# Altium schematic symbol library Connectors_Interface.SchLib: 18 symbols
Pins are listed as number, name and electrical type; pins without a type are passive.

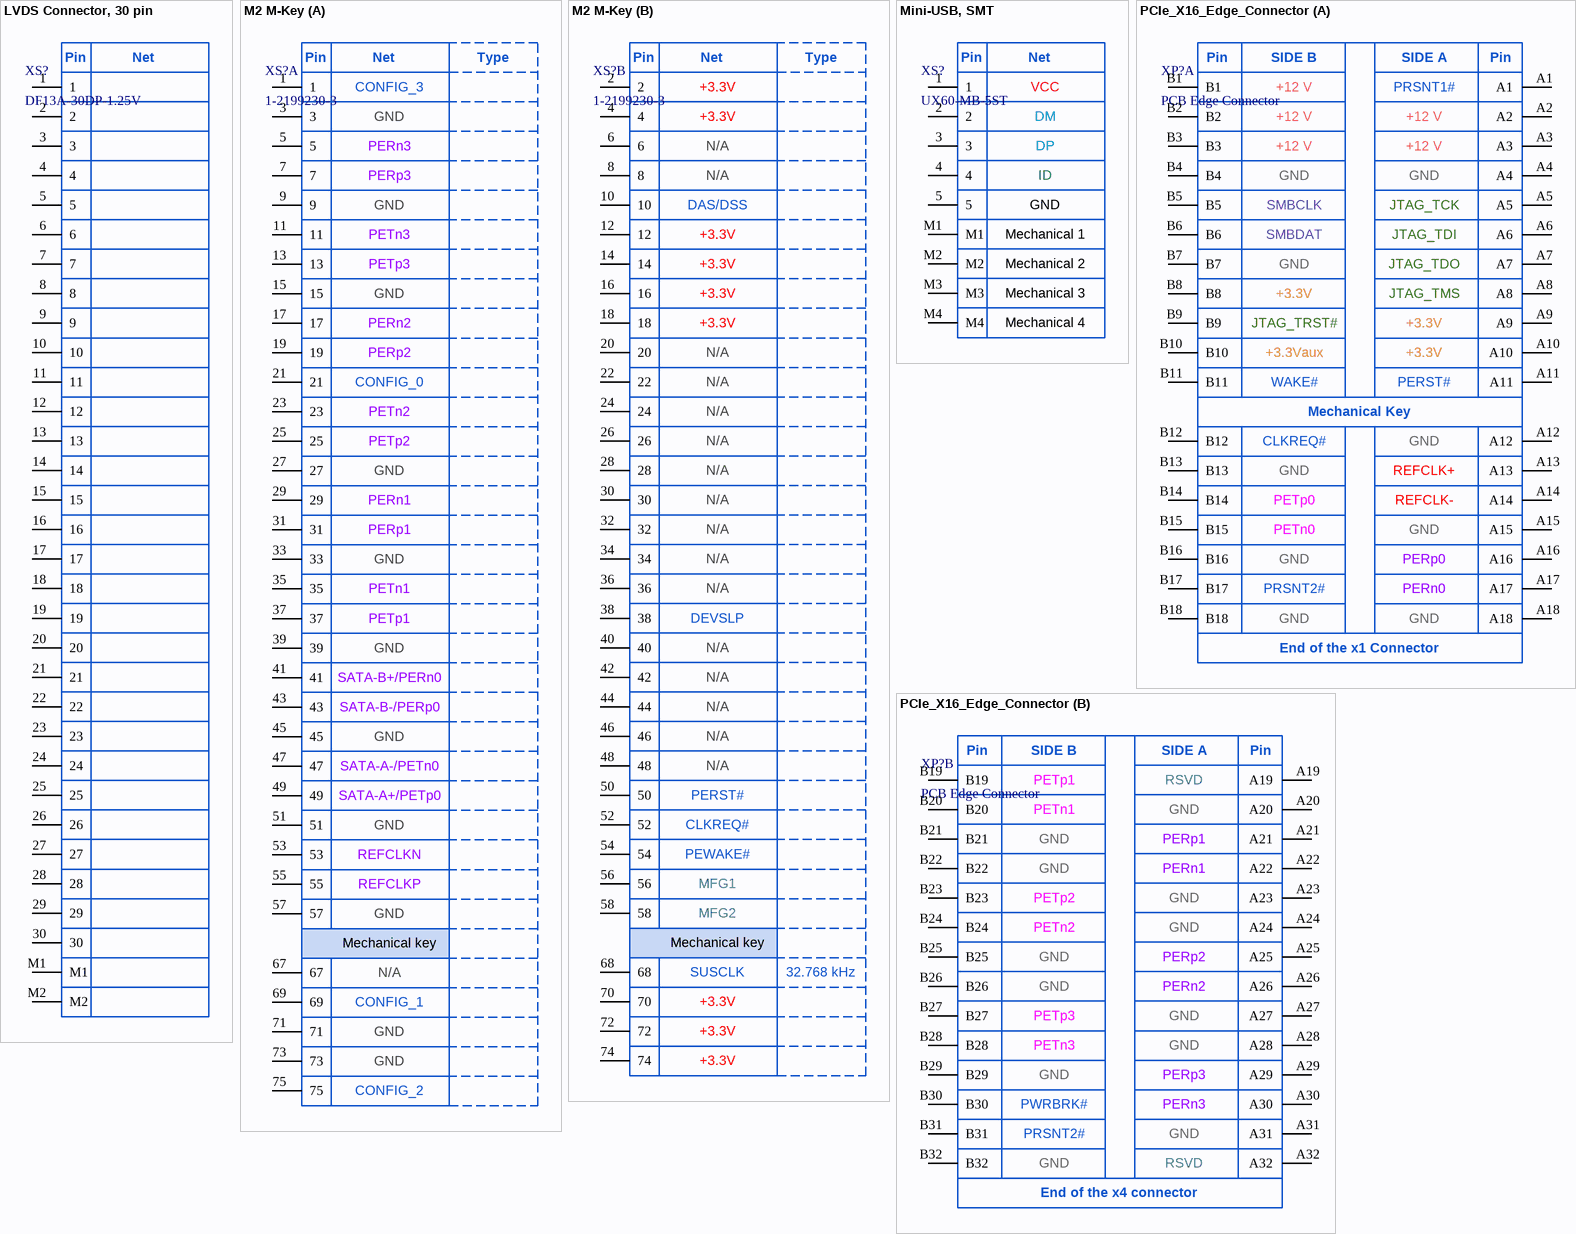
[diagram p0: symbols LVDS Connector, 30 pin to PCIe_X16_Edge_Connector]

## LVDS Connector, 30 pin
designator XS?, comment DF13A-30DP-1.25V
1.25mm Pitch, Double Row Straight Pin Header (SMT); Manufacturer: Hirose Electric Co Ltd.; ItemType: Connector; ItemSubType: LVDS; PartNumber: DF13A-30DP-1.25V; Mounting: SMD
footprint DF13A-30DP-1.25V (Double Row Straight Pin Header (SMT))
pins: 1, 2, 3, 4, 5, 6, 7, 8, 9, 10, 11, 12, 13, 14, 15, 16, 17, 18, 19, 20, 21, 22, 23, 24, 25, 26, 27, 28, 29, 30, M1, M2
text: Pin; Net

## M2 M-Key
designator XS?, comment 1-2199230-3
M.2 Connector M-Key; Manufacturer: TE Connectivity; ItemSubType: M2 M-Key; PartNumber: 1-2199230-3; ItemType: Connector; Mounting: SMD
footprint 1-2199230-3(2280) (TE Conn M.2 M-Key)
part A pins: 1, 3, 5, 7, 9, 11, 13, 15, 17, 19, 21, 23, 25, 27, 29, 31, 33, 35, 37, 39, 41, 43, 45, 47, 49, 51, 53, 55, 57, 67, 69, 71, 73, 75
part B pins: 2, 4, 6, 8, 10, 12, 14, 16, 18, 20, 22, 24, 26, 28, 30, 32, 34, 36, 38, 40, 42, 44, 46, 48, 50, 52, 54, 56, 58, 68, 70, 72, 74
part A text: Pin; Net; Type; CONFIG_3; GND; PERn3; PERp3; PETn3; PETp3; PERn2; PERp2; CONFIG_0; PETn2; PETp2; PERn1; PERp1; PETn1; PETp1; SATA-B+/PERn0; SATA-B-/PERp0; SATA-A-/PETn0; SATA-A+/PETp0; REFCLKN; REFCLKP; Mechanical key; N/A; CONFIG_1; CONFIG_2
part B text: Pin; Net; Type; +3.3V; N/A; DAS/DSS; DEVSLP; PERST#; CLKREQ#; PEWAKE#; MFG1; MFG2; Mechanical key; SUSCLK; 32.768 kHz

## Mini-USB, SMT
designator XS?, comment UX60-MB-5ST
Mini USB Connector Receptacle (type B); Manufacturer: Hirose Electric Co Ltd.; PartNumber: UX60-MB-5ST; ItemType: Connector; ItemSubType: Mini USB; Mounting: SMD
footprint UX60-MB-5ST (MiniUSB Connector)
pins: 1, 2, 3, 4, 5, M1, M2, M3, M4
text: Pin; Net; VCC; DM; DP; ID; GND; Mechanical 1; Mechanical 2; Mechanical 3; Mechanical 4

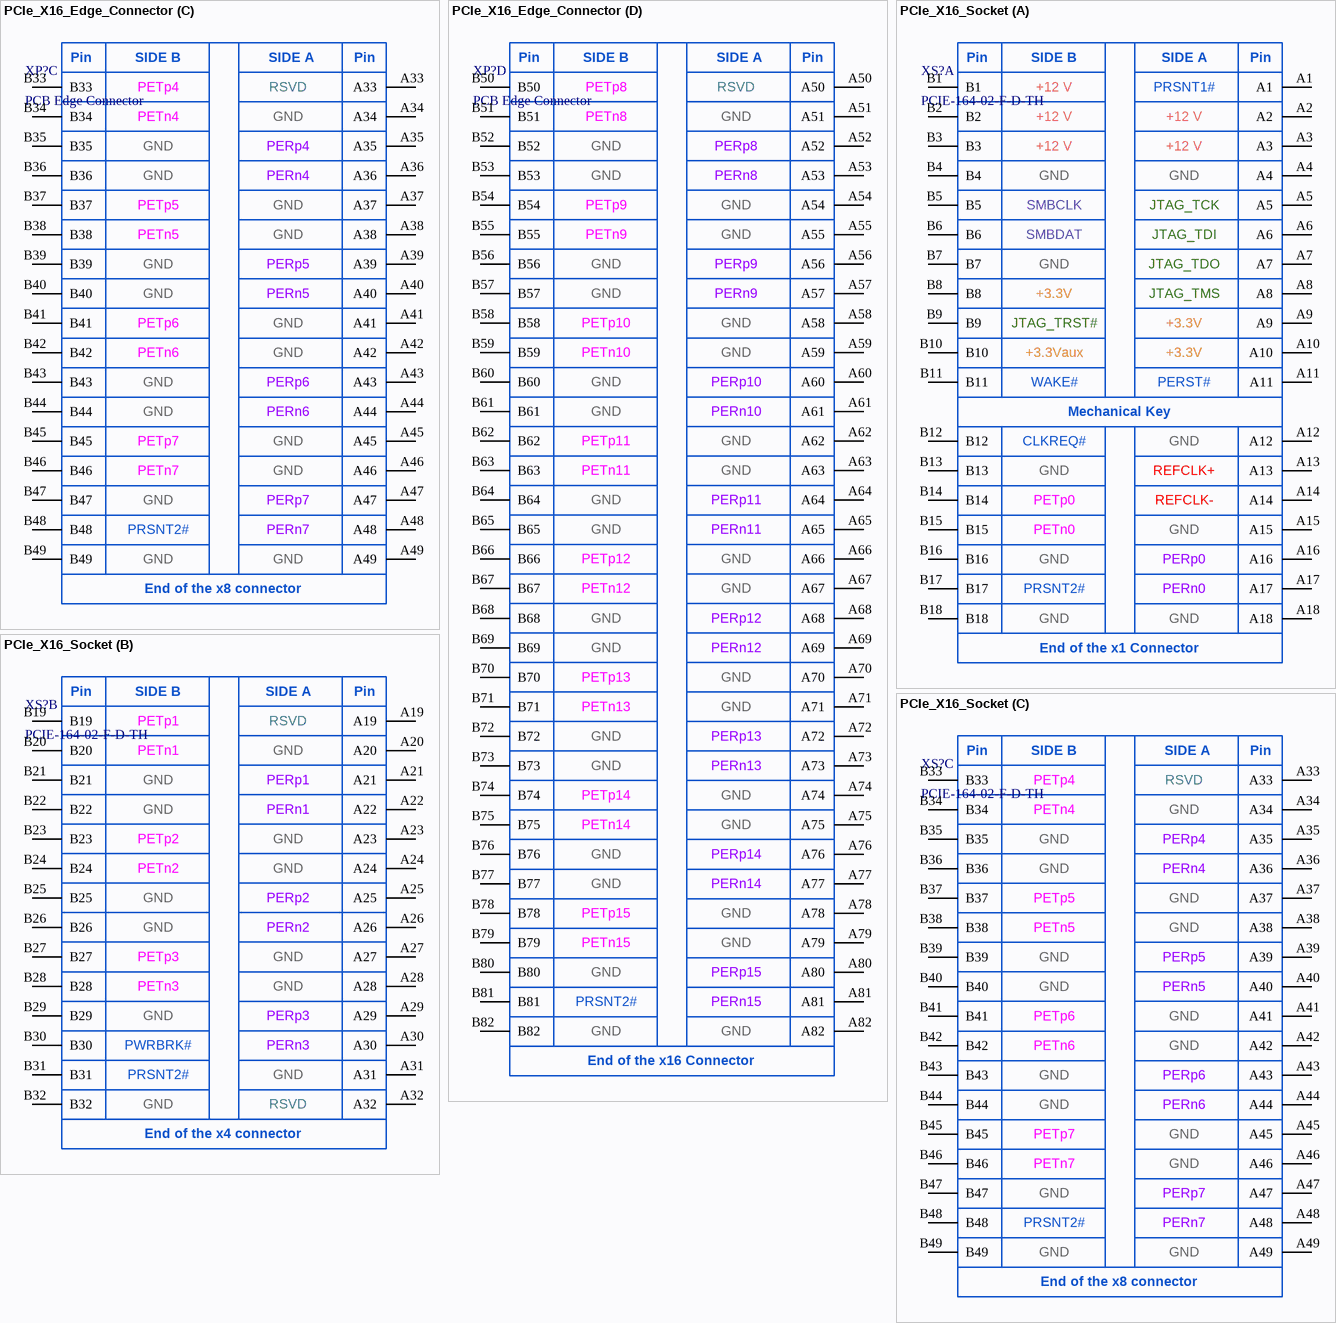
[diagram p1: symbols PCIe_X16_Edge_Connector to PCIe_X16_Socket]

## PCIe_X16_Edge_Connector
designator XP?, comment PCB Edge Connector  (no BOM)
PCI Express x16 Edge Card Socket; Manufacturer: Semtec; ItemSubType: PCE Express; Value: PCB Edge Connector; ItemType: Connector; Mounting: NONE
footprint PCIE_X16_EDGE_CONNECTOR (PCI Express x16 PCB Edge Connector)
part A pins: A1, A2, A3, A4, A5, A6, A7, A8, A9, A10, A11, A12, A13, A14, A15, A16, A17, A18, B1, B2, B3, B4, B5, B6, B7, B8, B9, B10, B11, B12, B13, B14, B15, B16, B17, B18
part B pins: A19, A20, A21, A22, A23, A24, A25, A26, A27, A28, A29, A30, A31, A32, B19, B20, B21, B22, B23, B24, B25, B26, B27, B28, B29, B30, B31, B32
part C pins: A33, A34, A35, A36, A37, A38, A39, A40, A41, A42, A43, A44, A45, A46, A47, A48, A49, B33, B34, B35, B36, B37, B38, B39, B40, B41, B42, B43, B44, B45, B46, B47, B48, B49
part D pins: A50, A51, A52, A53, A54, A55, A56, A57, A58, A59, A60, A61, A62, A63, A64, A65, A66, A67, A68, A69, A70, A71, A72, A73, A74, A75, A76, A77, A78, A79, A80, A81, A82, B50, B51, B52, B53, B54, B55, B56, B57, B58, B59, B60, B61, B62, B63, B64, B65, B66, B67, B68, B69, B70, B71, B72, B73, B74, B75, B76, B77, B78, B79, B80, B81, B82
part A text: Pin; SIDE B; SIDE A; +12 V; PRSNT1#; GND; SMBCLK; JTAG_TCK; SMBDAT; JTAG_TDI; JTAG_TDO; +3.3V; JTAG_TMS; JTAG_TRST#; +3.3Vaux; WAKE#; PERST#; Mechanical Key; CLKREQ#; REFCLK+; PETp0; REFCLK-; PETn0; PERp0; PRSNT2#; PERn0; End of the x1 Connector
part B text: Pin; SIDE B; SIDE A; PETp1; RSVD; PETn1; GND; PERp1; PERn1; PETp2; PETn2; PERp2; PERn2; PETp3; PETn3; PERp3; PWRBRK#; PERn3; PRSNT2#; End of the x4 connector
part C text: Pin; SIDE B; SIDE A; PETp4; RSVD; PETn4; GND; PERp4; PERn4; PETp5; PETn5; PERp5; PERn5; PETp6; PETn6; PERp6; PERn6; PETp7; PETn7; PERp7; PRSNT2#; PERn7; End of the x8 connector
part D text: Pin; SIDE B; SIDE A; PETp8; RSVD; PETn8; GND; PERp8; PERn8; PETp9; PETn9; PERp9; PERn9; PETp10; PETn10; PERp10; PERn10; PETp11; PETn11; PERp11; PERn11; PETp12; PETn12; PERp12; PERn12; PETp13; PETn13; PERp13; PERn13; PETp14; PETn14; PERp14; PERn14; PETp15; PETn15; PERp15; PRSNT2#; PERn15; End of the x16 Connector

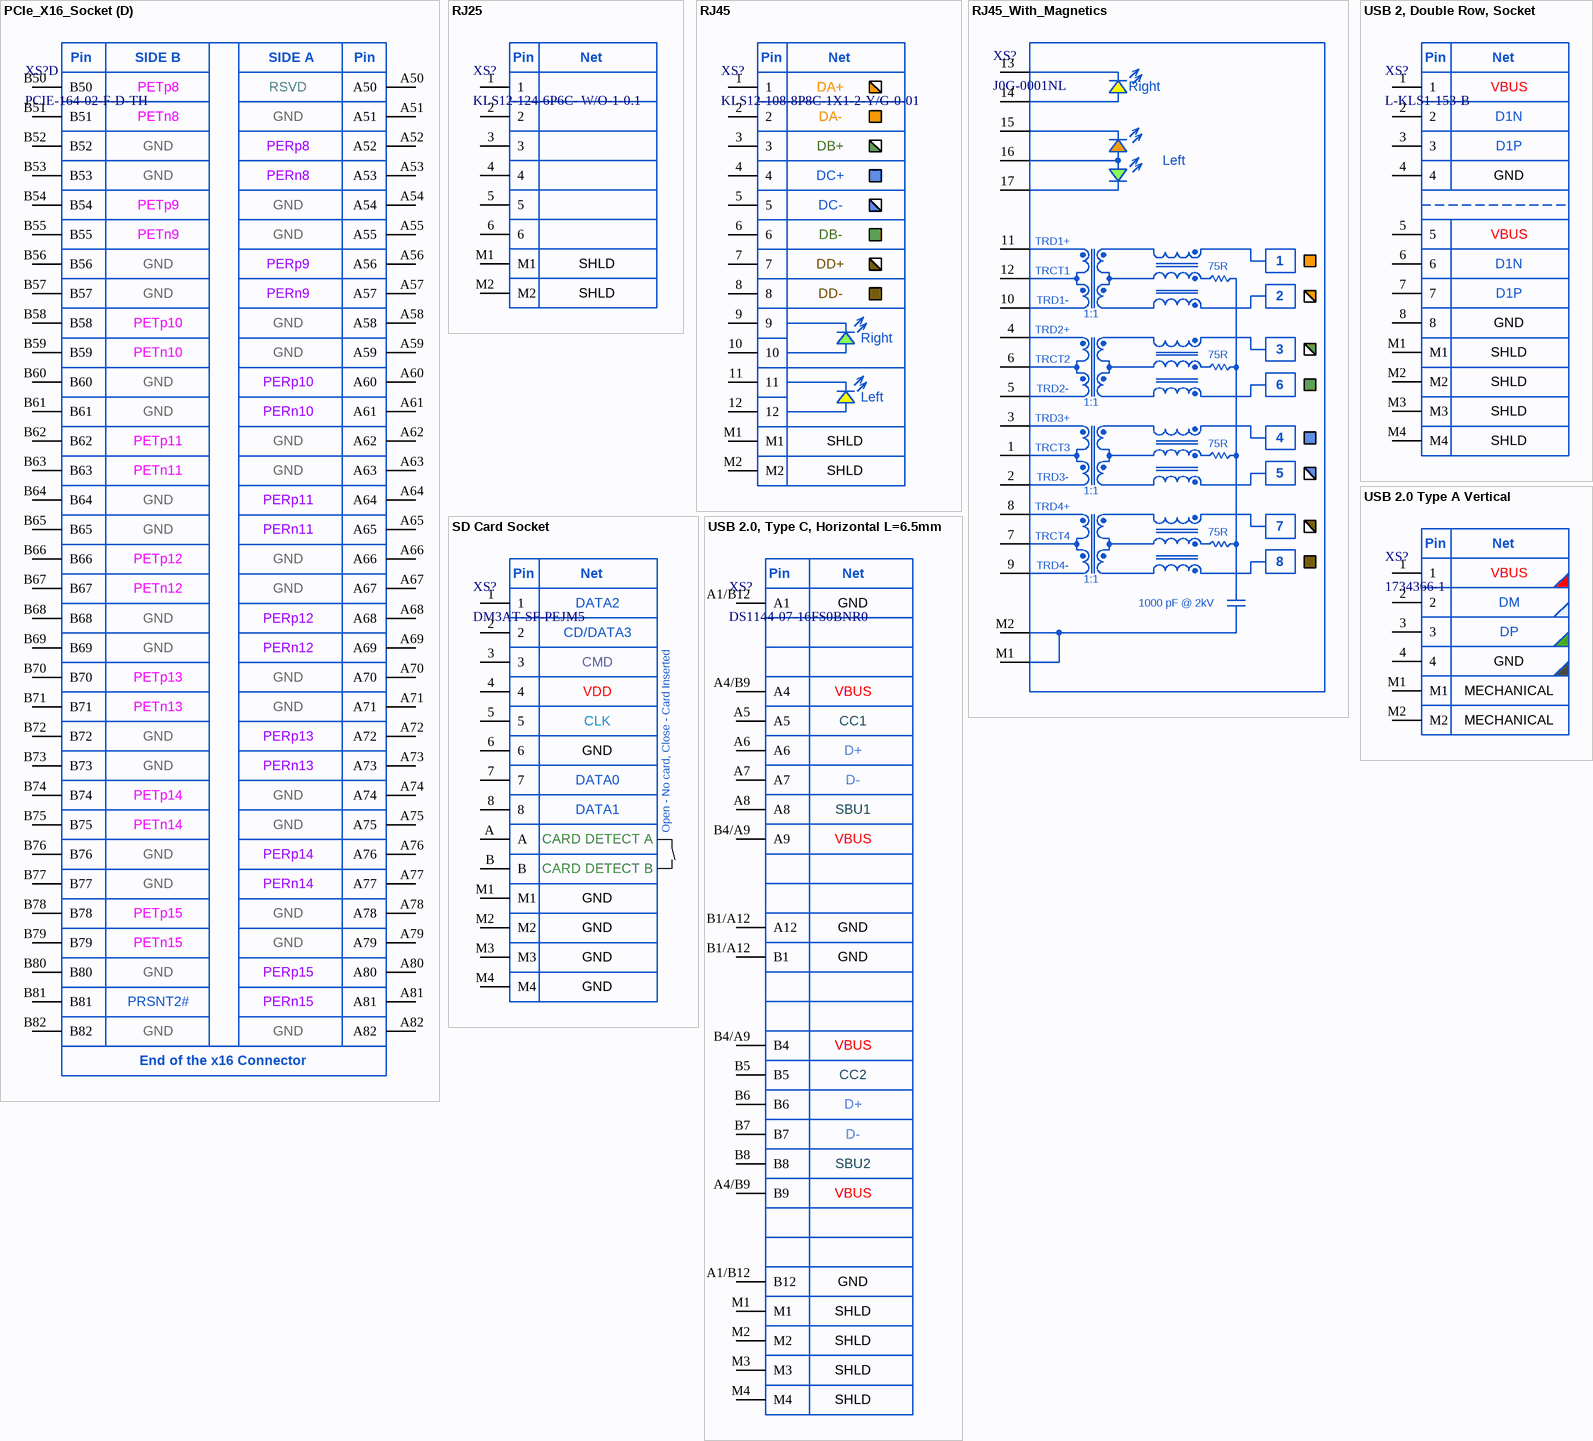
[diagram p2: symbols PCIe_X16_Socket to USB 2.0, Type C, Horizontal L=6.5mm]

## PCIe_X16_Socket
designator XS?, comment PCIE-164-02-F-D-TH
PCI Express x16 Edge Card Socket; Manufacturer: Semtec; ItemType: Connector; ItemSubType: PCE Express; PartNumber: PCIE-164-02-F-D-TH; Mounting: THT
footprint PCIE-164-02-F-D-TH (PCI Express x16 Edge Card Socket)
part A pins: A1, A2, A3, A4, A5, A6, A7, A8, A9, A10, A11, A12, A13, A14, A15, A16, A17, A18, B1, B2, B3, B4, B5, B6, B7, B8, B9, B10, B11, B12, B13, B14, B15, B16, B17, B18
part B pins: A19, A20, A21, A22, A23, A24, A25, A26, A27, A28, A29, A30, A31, A32, B19, B20, B21, B22, B23, B24, B25, B26, B27, B28, B29, B30, B31, B32
part C pins: A33, A34, A35, A36, A37, A38, A39, A40, A41, A42, A43, A44, A45, A46, A47, A48, A49, B33, B34, B35, B36, B37, B38, B39, B40, B41, B42, B43, B44, B45, B46, B47, B48, B49
part D pins: A50, A51, A52, A53, A54, A55, A56, A57, A58, A59, A60, A61, A62, A63, A64, A65, A66, A67, A68, A69, A70, A71, A72, A73, A74, A75, A76, A77, A78, A79, A80, A81, A82, B50, B51, B52, B53, B54, B55, B56, B57, B58, B59, B60, B61, B62, B63, B64, B65, B66, B67, B68, B69, B70, B71, B72, B73, B74, B75, B76, B77, B78, B79, B80, B81, B82
part A text: Pin; SIDE B; SIDE A; +12 V; PRSNT1#; GND; SMBCLK; JTAG_TCK; SMBDAT; JTAG_TDI; JTAG_TDO; +3.3V; JTAG_TMS; JTAG_TRST#; +3.3Vaux; WAKE#; PERST#; Mechanical Key; CLKREQ#; REFCLK+; PETp0; REFCLK-; PETn0; PERp0; PRSNT2#; PERn0; End of the x1 Connector
part B text: Pin; SIDE B; SIDE A; PETp1; RSVD; PETn1; GND; PERp1; PERn1; PETp2; PETn2; PERp2; PERn2; PETp3; PETn3; PERp3; PWRBRK#; PERn3; PRSNT2#; End of the x4 connector
part C text: Pin; SIDE B; SIDE A; PETp4; RSVD; PETn4; GND; PERp4; PERn4; PETp5; PETn5; PERp5; PERn5; PETp6; PETn6; PERp6; PERn6; PETp7; PETn7; PERp7; PRSNT2#; PERn7; End of the x8 connector
part D text: Pin; SIDE B; SIDE A; PETp8; RSVD; PETn8; GND; PERp8; PERn8; PETp9; PETn9; PERp9; PERn9; PETp10; PETn10; PERp10; PERn10; PETp11; PETn11; PERp11; PERn11; PETp12; PETn12; PERp12; PERn12; PETp13; PETn13; PERp13; PERn13; PETp14; PETn14; PERp14; PERn14; PETp15; PETn15; PERp15; PRSNT2#; PERn15; End of the x16 Connector

## RJ25
designator XS?, comment KLS12-124-6P6C- W/O-1-0.1
RJ25 6P6C PCB Modular Jack; Manufacturer: KLS; ItemType: Connector; Alternative1: TJ1A-6P6C; PartNumber: KLS12-124-6P6C- W/O-1-0.1; ItemSubType: RJ25; Mounting: THT
footprint KLS12-124-6P6C (PCB Modular Jack 55 Series)
pins: 1, 2, 3, 4, 5, 6, M1, M2
text: Pin; Net; SHLD

## RJ45
designator XS?, comment KLS12-108-8P8C-1X1-2-Y/G-0-01
RJ45 8P8C PCB Modular Jack; Manufacturer: KLS; AltManufacturer1: Amphenol; ItemType: Connector; PartNumber: KLS12-108-8P8C-1X1-2-Y/G-0-01; ItemSubType: RJ45; Alternative1: RJHSE-5381; Mounting: THT
footprint L-KLS12-108-8P8C (Ethernet RJ-45 Socket)
footprint L-KLS12-108-8P8C_SLOTS (Ethernet RJ-45 Socket)
pins: 1, 2, 3, 4, 5, 6, 7, 8, 9, 10, 11, 12, M1, M2
text: Pin; Net; DA+; DA-; DB+; DC+; DC-; DB-; DD+; DD-; Right; Left; SHLD

## RJ45_With_Magnetics
designator XS?, comment J0G-0001NL
RJ45 8P8C PCB Modular Jack; Manufacturer: Pulse Electronics; ItemType: Connector; PartNumber: J0G-0001NL; ItemSubType: RJ45; Mounting: THT
footprint J0G-0001NL (RJ45 Connector)
pins: 1, 2, 3, 4, 5, 6, 7, 8, 9, 10, 11, 12, 13, 14, 15, 16, 17, M1, M2
text: Right; Left; TRD1+; 75R; TRCT1; TRD1-; 1:1; TRD2+; TRCT2; TRD2-; TRD3+; TRCT3; TRD3-; TRD4+; TRCT4; TRD4-; 1000 pF @ 2kV

## SD Card Socket
designator XS?, comment DM3AT-SF-PEJM5
SD Card Socket; Manufacturer: Hirose Electric Co Ltd.; ItemType: Connector; ItemSubType: SD Card; PartNumber: DM3AT-SF-PEJM5; Mounting: SMD
footprint DM3AT-SF-PEJM5(Variant 2) (SD Card Socket)
pins: 1, 2, 3, 4, 5, 6, 7, 8, A, B, M1, M2, M3, M4
text: Pin; Net; DATA2; CD/DATA3; CMD; VDD; CLK; GND; DATA0; DATA1; CARD DETECT A; Open - No card, Close - Card Inserted; CARD DETECT B

## USB 2, Double Row, Socket
designator XS?, comment L-KLS1-153-B
USB Shielded I/O Receptacle, Double Row; Manufacturer: KLS; ItemType: Connector; PartNumber: L-KLS1-153-B; ItemSubType: USB; Mounting: THT
footprint L-KLS1-153-B (Connector USB 2.0 A Type A Female)
pins: 1, 2, 3, 4, 5, 6, 7, 8, M1, M2, M3, M4
text: Pin; Net; VBUS; D1N; D1P; GND; SHLD

## USB 2.0 Type A Vertical
designator XS?, comment 1734366-1
USB 2.0 Type A Vertical; Manufacturer: TE Connectivity; ItemType: Connector; PartNumber: 1734366-1; ItemSubType: USB; Mounting: THT
footprint 1734366-1 (USB 2.0 Type A Vertical THR)
pins: 1, 2, 3, 4, M1, M2
text: Pin; Net; VBUS; DM; DP; GND; MECHANICAL

## USB 2.0, Type C, Horizontal L=6.5mm
designator XS?, comment DS1144-07-16FS0BNR0
USB Shielded I/O Receptacle, Type C, Right-Angle, SMT Mount; Manufacturer: CONNFLY; ItemType: Connector; ItemSubType: USB Type C; PartNumber: DS1144-07-16FS0BNR0; Mounting: THT
footprint DS1144-07-16FS (USB TYPE C 16pin SMT Connector L=6.5mm)
pins: A1/B12 A1, A1/B12 B12, A4/B9 A4, A4/B9 B9, A5, A6, A7, A8, B1/A12 B1, B1/A12 A12, B4/A9 B4, B4/A9 A9, B5, B6, B7, B8, M1, M2, M3, M4
text: Pin; Net; GND; VBUS; CC1; D+; D-; SBU1; CC2; SBU2; SHLD

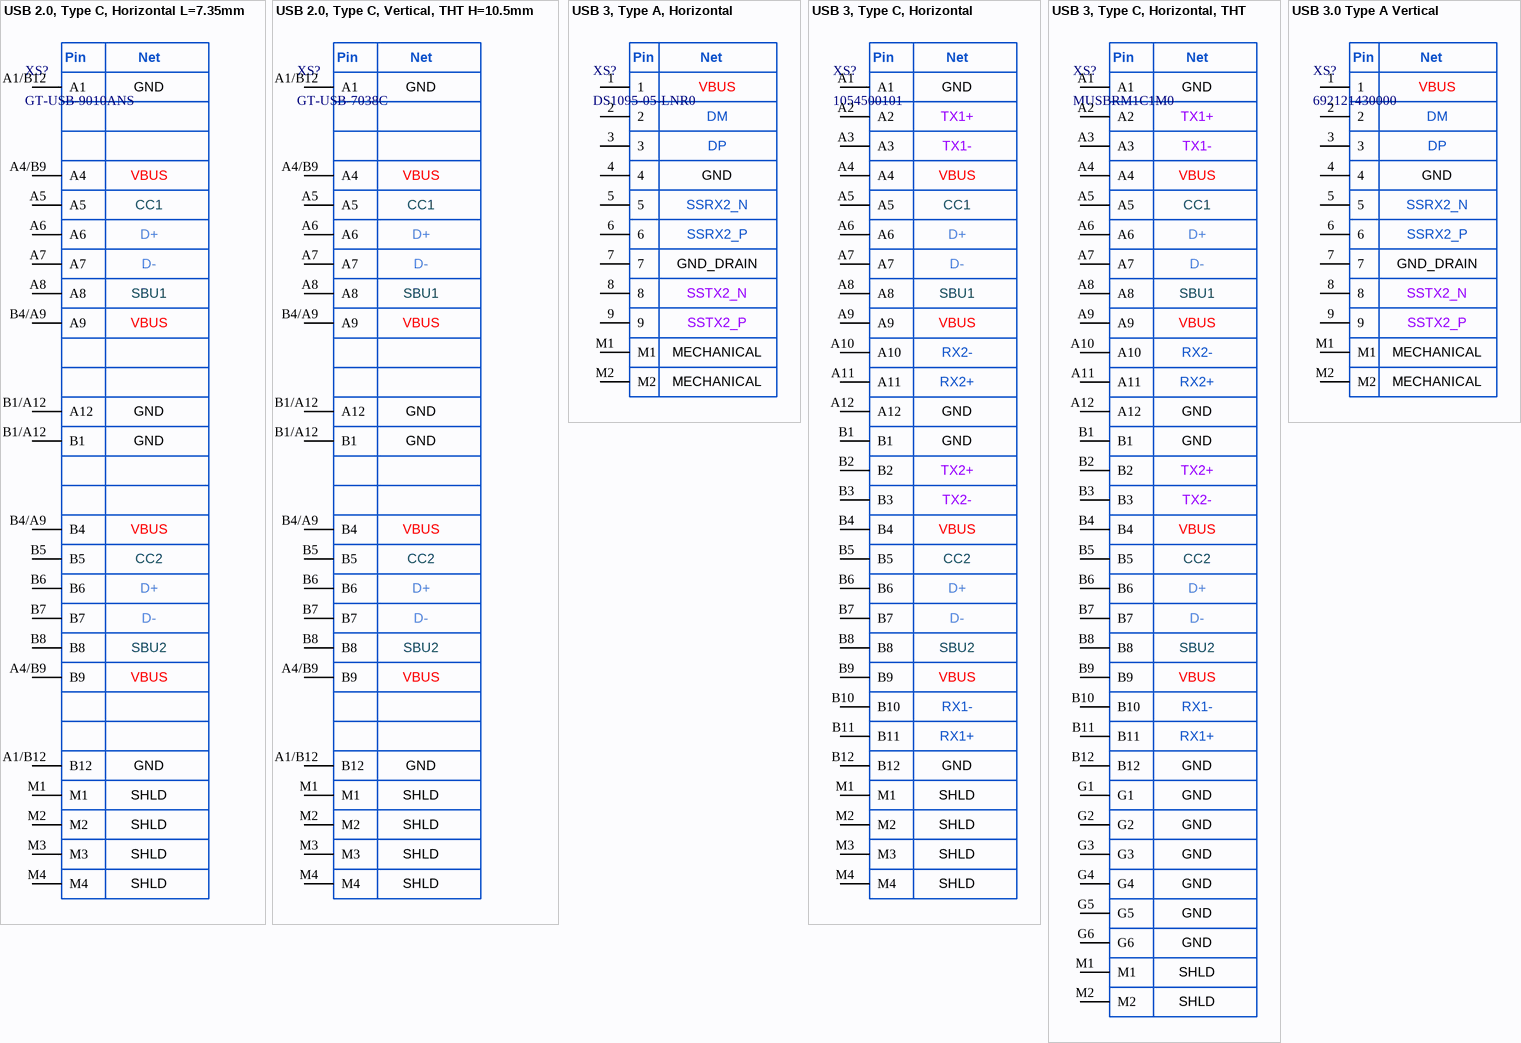
[diagram p3: symbols USB 2.0, Type C, Horizontal L=7.35mm to USB 3.0 Type A Vertical]

## USB 2.0, Type C, Horizontal L=7.35mm
designator XS?, comment GT-USB-9010ANS
USB Shielded I/O Receptacle, Type C, Right-Angle, SMT Mount; Manufacturer: G-Switch; ItemType: Connector; ItemSubType: USB Type C; Alternative1: GT-USB-7010ASV; PartNumber: GT-USB-9010ANS; AltManufacturer1: G-Switch; Mounting: SMD
footprint GT-USB-9010ANS (USB TYPE C 16pin SMT Connector L=7.35mm)
pins: A1/B12 A1, A1/B12 B12, A4/B9 A4, A4/B9 B9, A5, A6, A7, A8, B1/A12 B1, B1/A12 A12, B4/A9 B4, B4/A9 A9, B5, B6, B7, B8, M1, M2, M3, M4
text: Pin; Net; GND; VBUS; CC1; D+; D-; SBU1; CC2; SBU2; SHLD

## USB 2.0, Type C, Vertical, THT H=10.5mm
designator XS?, comment GT-USB-7038C
USB Shielded I/O Receptacle, Type C, Vertical, THT Mount; Manufacturer: G-Switch; ItemType: Connector; ItemSubType: USB Type C; PartNumber: GT-USB-7038C; Mounting: THT
footprint GT-USB-7038C (USB TYPE C Vertical 16pin THT Connector H=10.5mm)
pins: A1/B12 A1, A1/B12 B12, A4/B9 A4, A4/B9 B9, A5, A6, A7, A8, B1/A12 B1, B1/A12 A12, B4/A9 B4, B4/A9 A9, B5, B6, B7, B8, M1, M2, M3, M4
text: Pin; Net; GND; VBUS; CC1; D+; D-; SBU1; CC2; SBU2; SHLD

## USB 3, Type A, Horizontal
designator XS?, comment DS1095-05-LNR0
USB Shielded I/O Receptacle, Type A, Right-Angle, Top Mount; Manufacturer: Connfly; ItemType: Connector; ItemSubType: USB 3.0 Type A; PartNumber: DS1095-05-LNR0; Mounting: THT
footprint DS1095-05
footprint DS1095-05_SLOTS
pins: 1, 2, 3, 4, 5, 6, 7, 8, 9, M1, M2
text: Pin; Net; VBUS; DM; DP; GND; SSRX2_N; SSRX2_P; GND_DRAIN; SSTX2_N; SSTX2_P; MECHANICAL

## USB 3, Type C, Horizontal
designator XS?, comment 1054500101
USB Shielded I/O Receptacle, Type C, Right-Angle, Top Mount, Surface Mount; Manufacturer: Molex; ItemType: Connector; ItemSubType: USB Type C; PartNumber: 1054500101; Mounting: THT
footprint 1054500101 (USB TYPE C)
pins: A1, A2, A3, A4, A5, A6, A7, A8, A9, A10, A11, A12, B1, B2, B3, B4, B5, B6, B7, B8, B9, B10, B11, B12, M1, M2, M3, M4
text: Pin; Net; GND; TX1+; TX1-; VBUS; CC1; D+; D-; SBU1; RX2-; RX2+; TX2+; TX2-; CC2; SBU2; RX1-; RX1+; SHLD

## USB 3, Type C, Horizontal, THT
designator XS?, comment MUSBRM1C1M0
RUGGED USB TYPE 'C' RECEPTACLE, RIGHT ANGLE, PCB MOUNT; Manufacturer: Amphenol; ItemType: Connector; ItemSubType: USB Type C; PartNumber: MUSBRM1C1M0; Mounting: THT
footprint MUSBRM1C1M0 (RUGGED USB TYPE 'C' RECEPTACLE, RIGHT ANGLE, PCB MOUNT)
pins: A1, A2, A3, A4, A5, A6, A7, A8, A9, A10, A11, A12, B1, B2, B3, B4, B5, B6, B7, B8, B9, B10, B11, B12, G1, G2, G3, G4, G5, G6, M1, M2
text: Pin; Net; GND; TX1+; TX1-; VBUS; CC1; D+; D-; SBU1; RX2-; RX2+; TX2+; TX2-; CC2; SBU2; RX1-; RX1+; SHLD

## USB 3.0 Type A Vertical
designator XS?, comment 692121430000
USB 3.0 Type A Vertical; Manufacturer: Wurth Electronics; ItemType: Connector; PartNumber: 692121430000; ItemSubType: USB; Mounting: THT
footprint 692121430000 (USB 3.0 Type A Vertical THR)
pins: 1, 2, 3, 4, 5, 6, 7, 8, 9, M1, M2
text: Pin; Net; VBUS; DM; DP; GND; SSRX2_N; SSRX2_P; GND_DRAIN; SSTX2_N; SSTX2_P; MECHANICAL